# Altium schematic symbol library Schlib1.SchLib: 2 symbols
Pins are listed as number, name and electrical type; pins without a type are passive.

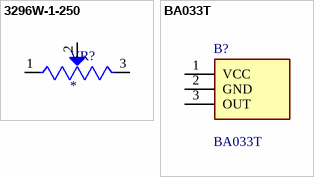
[diagram p0: symbols 3296W-1-250 to BA033T]

## 3296W-1-250
designator VR?
25 Ohms 0.5W, 1/2W PC Pins Through Hole Trimmer Potentiometer Cermet 25.0 Turn Top Adjustment; MF: Bourns; MP: 3296W-1-250; Purchase-URL: https://pricing.snapeda.com/search/part/3296W-1-250/?ref=eda; Check_prices: https://www.snapeda.com/parts/3296W-1-250/Bourns/view-part/?ref=eda; SnapEDA_Link: https://www.snapeda.com/parts/3296W-1-250/Bourns/view-part/?ref=snap; Price: None; Availability: In Stock; Package: NON STANDARD-3 Bourns; Value: *
footprint TRIM_3296W-1-250
pins: 1 CCW, 2 WIPER, 3 CW

## BA033T
designator B?
LDO Voltage Regulators REGULATOR 3.3V 1A; Manufacturer_Name: ROHM Semiconductor; Geometry.Height: 4.8mm; Mouser Part Number: 755-BA033T; Mouser Price/Stock: https://www.mouser.co.uk/ProductDetail/ROHM-Semiconductor/BA033T?qs=4kLU8WoGk0sYiXn4dS5I2A%3D%3D; Manufacturer_Part_Number: BA033T; Datasheet Link: https://media.digikey.com/pdf/Data%20Sheets/Rohm%20PDFs/BAOOT,FP%20Series.pdf
footprint TO254P480X1010X2300-3P
pins: 1 VCC, 2 GND, 3 OUT